# Altium footprint library Sensores.PcbLib: 11 footprints
Each footprint in its own frame and in the unit in brackets; x right, y up, seen from the top. Pads: shape width x height; smd on the part's side, far side on the other; paste and mask are expansions set on the pad; w line width, h text height; cw(c..) or ccw(c..) is an arc to the next point about the centre after c.
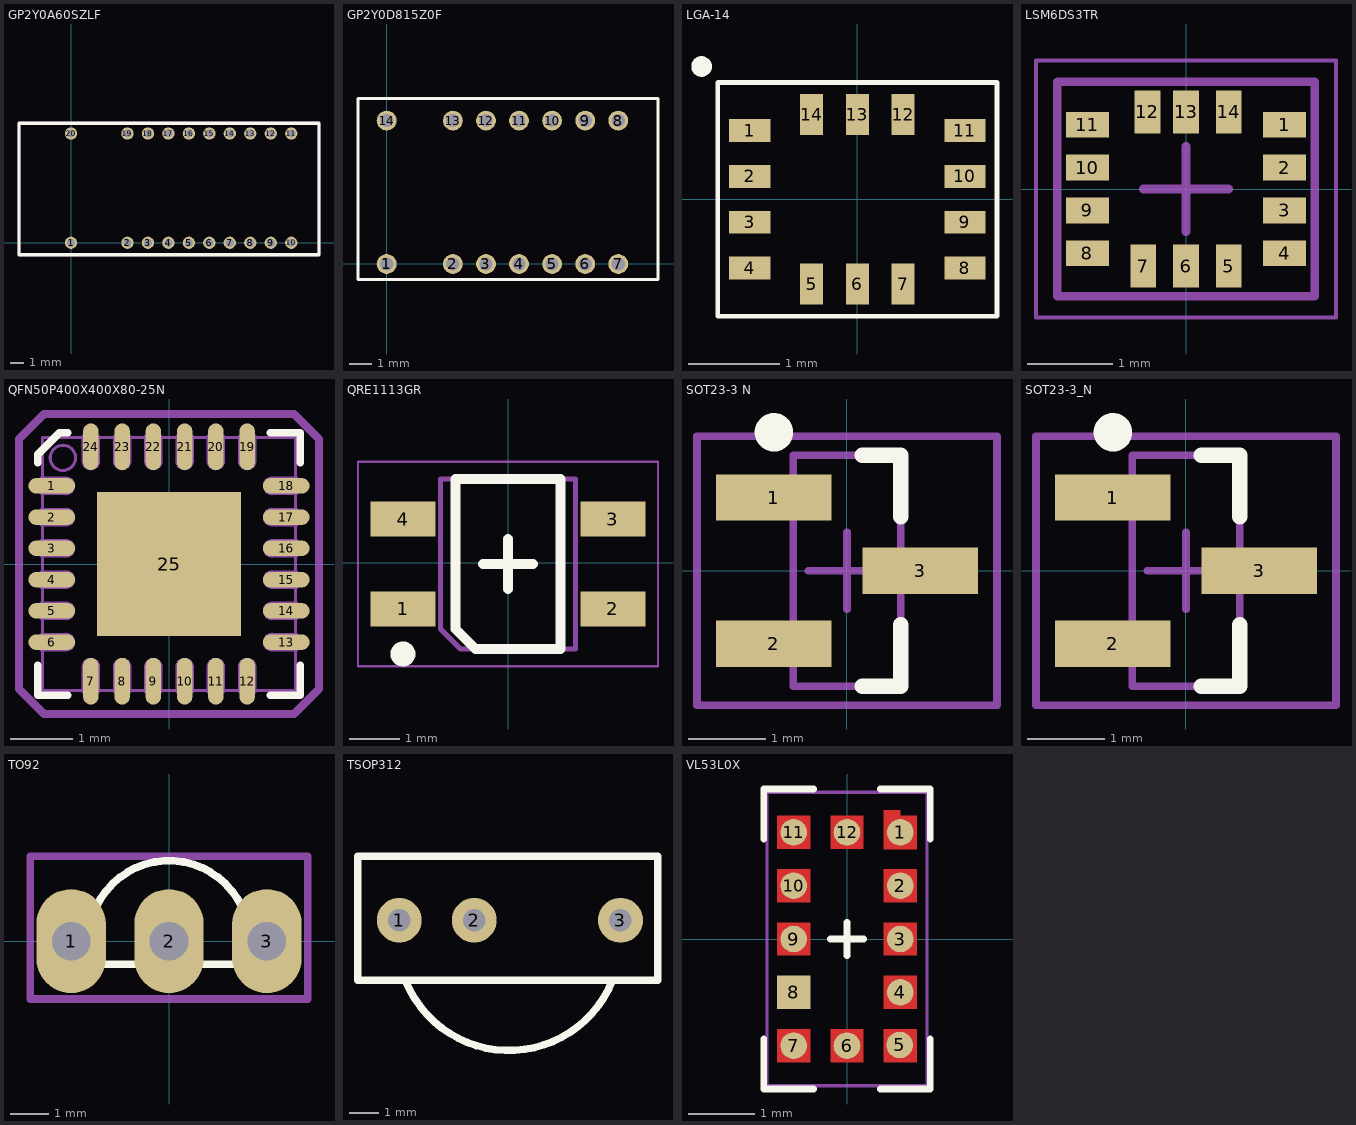
[diagram p0: the footprints below, top view; thin cyan lines are the x and y axes]

## GP2Y0A60SZLF [mm]
pads (20):
  round 0.9 hole 0.6: 1(0,0) 2(4.13,0) 3(5.63,0) 4(7.13,0) 5(8.63,0) 6(10.13,0) 7(11.63,0) 8(13.13,0) 9(14.63,0) 10(16.13,0) 11(16.13,8.001) 12(14.63,8.001) 13(13.13,8.001) 14(11.63,8.001) 15(10.13,8.001) 16(8.63,8.001) 17(7.13,8.001) 18(5.63,8.001) 19(4.13,8.001) 20(0,8.001)
Top Overlay:
  lines w0.254: -3.81,-0.889 18.161,-0.889 18.161,8.763 -3.81,8.763 -3.81,-0.889
Mechanical 1:
  lines w0.254: -3.81,-0.889 -3.81,8.763 18.161,8.763 18.161,-0.889 -3.81,-0.889
3D body "sensor para a flávia.STEP": height 8.76, standoff -1.09, extent -3.87,0 18.13,8.278

## GP2Y0D815Z0F [mm]
pads (14):
  round 0.9 hole 0.6: 1(0,0) 2(3,0) 3(4.5,0) 4(6,0) 5(7.5,0) 6(9,0) 7(10.5,0) 8(10.5,6.5) 9(9,6.5) 10(7.5,6.5) 11(6,6.5) 12(4.5,6.5) 13(3,6.5) 14(0,6.5)
Top Overlay:
  lines w0.152: -1.3,-0.7 12.3,-0.7 12.3,7.5 -1.3,7.5 -1.3,-0.7

## LGA-14 [mm]
pads (14):
  rect 0.45x0.25 smd: 1(-1.175,0.75) 2(-1.175,0.25) 3(-1.175,-0.25) 4(-1.175,-0.75) 8(1.175,-0.75) 9(1.175,-0.25) 10(1.175,0.25) 11(1.175,0.75)
  rect 0.25x0.45 smd: 5(-0.5,-0.925) 6(0,-0.925) 7(0.5,-0.925) 12(0.5,0.925) 13(0,0.925) 14(-0.5,0.925)
Top Overlay:
  circle w0.125: c-1.7,1.45 r0.05
  lines w0.051: -1.525,-1.275 1.525,-1.275 1.525,1.275 -1.525,1.275 -1.525,-1.275
3D body "Sensor 6 eixos st v0.step": height 0.99, standoff -0.02, extent -1.5,-1.25 1.5,1.25

## LSM6DS3TR [mm] "LGA, 14-Leads, Body 3.00x2.50mmx0.83mm, Pitch 0.50mm"
height 0.83
pads (14):
  rect 0.5x0.3 smd: 1(1.15,0.75) 2(1.15,0.25) 3(1.15,-0.25) 4(1.15,-0.75) 8(-1.15,-0.75) 9(-1.15,-0.25) 10(-1.15,0.25) 11(-1.15,0.75)
  rect 0.3x0.5 smd: 5(0.5,-0.9) 6(0,-0.9) 7(-0.5,-0.9) 12(-0.45,0.9) 13(0,0.9) 14(0.5,0.9)
Mechanical 13:
  lines w0.1: -1.5,-1.25 -1.5,1.25 1.5,1.25 1.5,-1.25 -1.5,-1.25
Mechanical 15:
  lines w0.05: -1.75,-1.5 -1.75,1.5 1.75,1.5 1.75,-1.5 -1.75,-1.5
  lines w0.1: -0.5,0 0.5,0 ; 0,-0.5 0,0.5
3D body "User Library-LGA-14 2_5x3.STEP": height 0, standoff -0.86, extent -1.5,-1.25 1.5,1.25

## QFN50P400X400X80-25N [mm] "QFN, 24-Leads with exposed die pad, Body 4.05x4.05mm (max), Pitch 0.50mm, IPC Medium Density"
height 0.8
pads (25):
  oval 0.75x0.25 smd mask+0.075: 1(-1.875,1.25) 2(-1.875,0.75) 3(-1.875,0.25) 4(-1.875,-0.25) 5(-1.875,-0.75) 6(-1.875,-1.25) 13(1.875,-1.25) 14(1.875,-0.75) 15(1.875,-0.25) 16(1.875,0.25) 17(1.875,0.75) 18(1.875,1.25)
  oval 0.25x0.75 smd mask+0.075: 7(-1.25,-1.875) 8(-0.75,-1.875) 9(-0.25,-1.875) 10(0.25,-1.875) 11(0.75,-1.875) 12(1.25,-1.875) 19(1.25,1.875) 20(0.75,1.875) 21(0.25,1.875) 22(-0.25,1.875) 23(-0.75,1.875) 24(-1.25,1.875)
  rect 2.3x2.3 smd paste-1.7: 25(0,0)
Top Overlay:
  lines w0.127: -2.1,-1.625 -2.1,-2.1 -1.625,-2.1 ; -2.1,1.625 -2.1,1.75 -1.75,2.1 -1.625,2.1 ; 1.625,-2.1 2.1,-2.1 2.1,-1.625 ; 1.625,2.1 2.1,2.1 2.1,1.625
  text "." at -2.63,1.25 h0.05
Top Paste:
  region: -1.1,-0.3 -1.1,0.3 -1,0.4 -0.5,0.4 -0.4,0.5 -0.4,1 -0.3,1.1 0.3,1.1 0.4,1 0.4,0.5 0.5,0.4 1,0.4 1.1,0.3 1.1,-0.3 1,-0.4 0.5,-0.4 0.4,-0.5 0.4,-1 0.3,-1.1 -0.3,-1.1 -0.4,-1 -0.4,-0.5 -0.5,-0.4 -1,-0.4
Bottom Paste:
  region: 0.2,1 -0.2,1 -0.4,0.8 -0.4,0.5 -0.5,0.4 -0.8,0.4 -1,0.2 -1,-0.2 -0.8,-0.4 -0.5,-0.4 -0.4,-0.5 -0.4,-0.8 -0.2,-1 0.2,-1 0.4,-0.8 0.4,-0.5 0.5,-0.4 0.8,-0.4 1,-0.2 1,0.2 0.8,0.4 0.5,0.4 0.4,0.5 0.4,0.8
Top Solder:
  circle w0.4: c-0.6,-0.6 r0.4
  circle w0.4: c0.6,-0.6 r0.4
  circle w0.4: c0.6,0.6 r0.4
  circle w0.4: c-0.6,0.6 r0.4
  rectangle: -0.3,-1.225 0.3,1.2
  region: 1.225,-0.3 1.225,0.3 -1.2,0.3 -1.2,-0.3
Mechanical 13:
  circle w0.05: c-1.698,1.698 r0.202
  lines w0.05: -2.025,-1.375 -2.025,-2.025 -1.375,-2.025 ; -2.025,-1.125 -2.025,-0.875 ; -2.025,-0.625 -2.025,-0.375 ; -2.025,-0.125 -2.025,0.125 ; -2.025,0.375 -2.025,0.625 ; -2.025,0.875 -2.025,1.125 ; -2.025,1.375 -2.025,2.025 -1.375,2.025 ; -1.125,-2.025 -0.875,-2.025 ; -1.125,2.025 -0.875,2.025 ; -0.625,-2.025 -0.375,-2.025 ; -0.625,2.025 -0.375,2.025 ; -0.125,-2.025 0.125,-2.025 ; -0.125,2.025 0.125,2.025 ; 0.375,-2.025 0.625,-2.025 ; 0.375,2.025 0.625,2.025 ; 0.875,-2.025 1.125,-2.025 ; 0.875,2.025 1.125,2.025 ; 1.375,-2.025 2.025,-2.025 2.025,-1.375 ; 1.375,2.025 2.025,2.025 2.025,1.375 ; 2.025,-1.125 2.025,-0.875 ; 2.025,-0.625 2.025,-0.375 ; 2.025,-0.125 2.025,0.125 ; 2.025,0.375 2.025,0.625 ; 2.025,0.875 2.025,1.125 ; -2.045,-1.375 -1.65,-1.375 ccw(c-1.65,-1.25) -1.65,-1.125 -2.045,-1.125 -2.045,-1.375 ; -2.045,-0.875 -1.65,-0.875 ccw(c-1.65,-0.75) -1.65,-0.625 -2.045,-0.625 -2.045,-0.875 ; -2.045,-0.375 -1.65,-0.375 ccw(c-1.65,-0.25) -1.65,-0.125 -2.045,-0.125 -2.045,-0.375 ; -2.045,0.125 -1.65,0.125 ccw(c-1.65,0.25) -1.65,0.375 -2.045,0.375 -2.045,0.125 ; -2.045,0.625 -1.65,0.625 ccw(c-1.65,0.75) -1.65,0.875 -2.045,0.875 -2.045,0.625 ; -2.045,1.125 -1.65,1.125 ccw(c-1.65,1.25) -1.65,1.375 -2.045,1.375 -2.045,1.125 ; -1.375,-2.045 -1.375,-1.65 cw(c-1.25,-1.65) -1.125,-1.65 -1.125,-2.045 -1.375,-2.045 ; -1.375,1.65 ccw(c-1.25,1.65) -1.125,1.65 -1.125,2.045 -1.375,2.045 -1.375,1.65 ; -0.875,-2.045 -0.875,-1.65 cw(c-0.75,-1.65) -0.625,-1.65 -0.625,-2.045 -0.875,-2.045 ; -0.875,1.65 ccw(c-0.75,1.65) -0.625,1.65 -0.625,2.045 -0.875,2.045 -0.875,1.65 ; -0.375,-2.045 -0.375,-1.65 cw(c-0.25,-1.65) -0.125,-1.65 -0.125,-2.045 -0.375,-2.045 ; -0.375,1.65 ccw(c-0.25,1.65) -0.125,1.65 -0.125,2.045 -0.375,2.045 -0.375,1.65 ; 0.125,-2.045 0.125,-1.65 cw(c0.25,-1.65) 0.375,-1.65 0.375,-2.045 0.125,-2.045 ; 0.125,1.65 ccw(c0.25,1.65) 0.375,1.65 0.375,2.045 0.125,2.045 0.125,1.65 ; 0.625,-2.045 0.625,-1.65 cw(c0.75,-1.65) 0.875,-1.65 0.875,-2.045 0.625,-2.045 ; 0.625,1.65 ccw(c0.75,1.65) 0.875,1.65 0.875,2.045 0.625,2.045 0.625,1.65 ; 1.125,-2.045 1.125,-1.65 cw(c1.25,-1.65) 1.375,-1.65 1.375,-2.045 1.125,-2.045 ; 1.125,1.65 ccw(c1.25,1.65) 1.375,1.65 1.375,2.045 1.125,2.045 1.125,1.65 ; 1.65,-1.375 cw(c1.65,-1.25) 1.65,-1.125 2.045,-1.125 2.045,-1.375 1.65,-1.375 ; 1.65,-0.875 cw(c1.65,-0.75) 1.65,-0.625 2.045,-0.625 2.045,-0.875 1.65,-0.875 ; 1.65,-0.375 cw(c1.65,-0.25) 1.65,-0.125 2.045,-0.125 2.045,-0.375 1.65,-0.375 ; 1.65,0.125 cw(c1.65,0.25) 1.65,0.375 2.045,0.375 2.045,0.125 1.65,0.125 ; 1.65,0.625 cw(c1.65,0.75) 1.65,0.875 2.045,0.875 2.045,0.625 1.65,0.625 ; 1.65,1.125 cw(c1.65,1.25) 1.65,1.375 2.045,1.375 2.045,1.125 1.65,1.125
Mechanical 15:
  lines w0.127: -2.4,-2 -2.4,2 -2,2.4 2,2.4 2.4,2 2.4,-2 2,-2.4 -2,-2.4 -2.4,-2
3D body "QFN50P400X400X80-25N.STEP": height 0.8, standoff 0, extent -2.045,-2.045 2.045,2.045

## QRE1113GR [mm]
height 1.7
pads (4):
  rect 1.3x0.7 smd: 1(-2.1,-0.925) 2(2.1,-0.925) 3(2.1,0.875) 4(-2.1,0.875)
Top Overlay:
  circle w0.25: c-2.1,-1.825 r0.125
  lines w0.2: -0.5,-0.025 0.5,-0.025 ; 0,-0.525 0,0.475 ; -1.05,-1.325 -0.65,-1.725 1.05,-1.725 1.05,1.675 -1.05,1.675 -1.05,-1.325
Mechanical 13:
  lines w0.1: -1.35,-1.325 -1.35,1.675 1.35,1.675 1.35,-1.725 -0.95,-1.725 -1.35,-1.325
Mechanical 15:
  lines w0.05: -3,-2.075 -3,2.025 3,2.025 3,-2.075 -3,-2.075
  lines w0.1: -0.5,-0.025 0.5,-0.025 ; 0,-0.525 0,0.475
Mechanical 29:
  text ".Designator" at 0,-0.025 h1
3D body "QRE1113.STEP": height 1.71, standoff -0.01, extent -2.35,-1.725 2.35,1.675

## SOT23-3 N [mm] "SOT23, 3-Leads, Body 2.9x1.3mm, Pitch 0.95mm, Lead Span 2.5mm, IPC Medium Density"
height 1.1
pads (3):
  rect 1.5x0.6 smd: 1(-0.95,0.95) 2(-0.95,-0.95) 3(0.95,0)
Top Overlay:
  circle w0.25: c-0.95,1.8 r0.125
  lines w0.2: 0.2,-1.5 0.7,-1.5 0.7,-0.7 ; 0.2,1.5 0.7,1.5 0.7,0.7
Mechanical 13:
  lines w0.1: -0.7,-1.5 -0.7,1.5 0.7,1.5 0.7,-1.5 -0.7,-1.5
Mechanical 15:
  lines w0.1: -0.5,0 0.5,0 ; 0,-0.5 0,0.5 ; -1.95,-1.75 -1.95,1.75 1.95,1.75 1.95,-1.75 -1.95,-1.75
Mechanical 29:
  text ".Designator" at 0,0 h1
3D body "SOT23-3.STEP": height 1.3, standoff 0, extent -1.4,-1.45 1.4,1.45

## SOT23-3_N [mm] "SOT23, 3-Leads, Body 2.9x1.3mm, Pitch 0.95mm, Lead Span 2.5mm, IPC Medium Density"
height 1.1
pads (3):
  rect 1.5x0.6 smd: 1(-0.95,0.95) 2(-0.95,-0.95) 3(0.95,0)
Top Overlay:
  circle w0.25: c-0.95,1.8 r0.125
  lines w0.2: 0.2,-1.5 0.7,-1.5 0.7,-0.7 ; 0.2,1.5 0.7,1.5 0.7,0.7
Mechanical 13:
  lines w0.1: -0.7,-1.5 -0.7,1.5 0.7,1.5 0.7,-1.5 -0.7,-1.5
Mechanical 15:
  lines w0.1: -0.5,0 0.5,0 ; 0,-0.5 0,0.5 ; -1.95,-1.75 -1.95,1.75 1.95,1.75 1.95,-1.75 -1.95,-1.75
Mechanical 29:
  text ".Designator" at -2.159,-1.143 h2
3D body "User Library-3-lead sot23-3.step": height 1.03, standoff 0.01, extent -1.377,-1.46 1.099,1.46

## TO92 [mm]
pads (3):
  oval 1.8x2.7 hole 1: 1(-2.54,0) 2(0,0) 3(2.54,0)
Top Overlay:
  lines w0.2: -2,-0.6 cw(c0,0) 2,-0.6 -2,-0.6
Mechanical 15:
  lines w0.1: -0.2,0.35 0.2,0.35 ; 0,0.15 0,0.55
  lines w0.2: -3.6,-1.5 -3.6,2.2 3.6,2.2 3.6,-1.5 -3.6,-1.5
Mechanical 29:
  text "1" at -3.2,1.4 h0.5
  text ".Designator" at -3.4,2.6 h0.5
3D body "TO92.STEP": height 6.83, standoff -1.9, extent -2.74,-0.568 2.74,2.04

## TSOP312 [mil]
pads (3):
  round 60 hole 30: 1(-49750,-49735) 2(-49650,-49735) 3(-49455,-49735)
Top Overlay:
  lines w10: -49740.78,-49817.42 ccw(c-49603.66,-49760) -49465.47,-49814.81 ; -49805,-49815 -49405,-49815 -49405,-49650 -49805,-49650 -49805,-49815
3D body "User Library-User Library-tsop312.STEP": height 492.13, standoff -78.74, extent -49801.85,-49874.61 -49408.15,-49646.26

## VL53L0X [mm]
pads (12):
  round 0.4 smd: 1(0.8,1.6) 2(0.8,0.8) 3(0.8,0) 4(0.8,-0.8) 5(0.79,-1.59) 6(0,-1.6) 7(-0.8,-1.6) 9(-0.8,0) 10(-0.8,0.8) 11(-0.8,1.6) 12(0,1.6)
  rect 0.5x0.5 smd: 8(-0.8,-0.8)
Top Layer:
  rectangle: -1.05,1.35 -0.55,1.85
  rectangle: -1.05,0.55 -0.55,1.05
  rectangle: -1.05,-0.25 -0.55,0.25
  rectangle: 0.55,-1.85 1.05,-1.35
  rectangle: 0.55,0.55 1.05,1.05
  rectangle: 0.55,-1.05 1.05,-0.55
  rectangle: 0.55,-0.25 1.05,0.25
  rectangle: -0.25,-1.85 0.25,-1.35
  rectangle: -0.25,1.35 0.25,1.85
  rectangle: -1.05,-1.85 -0.55,-1.35
  region: 0.55,1.35 0.55,1.93 0.8,1.93 0.8,1.85 1.05,1.85 1.05,1.35
Top Overlay:
  lines w0.1: -1.25,-1.5 -1.25,-2.25 -0.5,-2.25 ; -1.25,1.5 -1.25,2.25 -0.5,2.25 ; -0.25,0 0.25,0 ; 0,-0.25 0,0.25 ; 0.5,-2.25 1.25,-2.25 1.25,-1.5 ; 0.5,2.25 1.25,2.25 1.25,1.5
Mechanical 13:
  lines w0.05: -1.2,-2.2 -1.2,2.2 1.2,2.2 1.2,-2.2 -1.2,-2.2
3D body "Sensor st v0.step": height 1.04, standoff -0.01, extent -1.2,-2.2 1.2,2.2